# EAGLE library part TFF (library ngspice)
The digital toggle-type flip flop is a one-bit, edge-triggered storage element which will toggle its current state whenever the clk input line transitions from low to high (ZERO to ONE). In addition, asynchronous set and reset signals exist, and each of the three meth- ods of changing the stored output of the d_tff have separate load values and delays associated with them. Additionally, you may specify separate rise and fall delay values that are added to those specified for the input lines; these allow for more faithful reproduction of the output characteristics of different IC fabrication technologies. Note that any UNKNOWN inputs other than t immediately cause the output to go UNKNOWN.
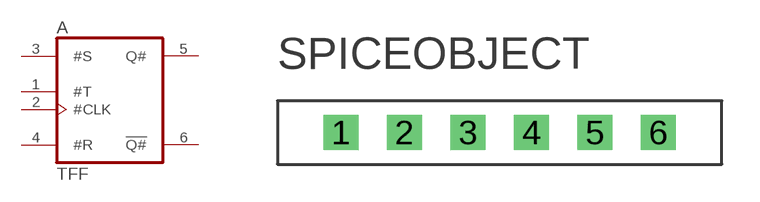
[diagram p2: symbol with the pads of SPICE6; footprint SPICE6]

Designator prefix A

## TFF (SPICE_MODEL: .model >VALUE d_tff (clk_delay set_delay reset_delay ic t_load clk_load set_load reset_load rise_delay fall_delay); SP_CLK_DELAY: 1ns; SP_CLK_LOAD: 1pF; SP_FALL_DELAY: 1ns; SP_IC: 0; SP_RESET_DELAY: 1ns; SP_RESET_LOAD: 1pF; SP_RISE_DELAY: 1ns; SP_SET_DELAY: 1ns; SP_SET_LOAD: 1pF; SP_T_LOAD: 1pF)  [SPICE6]
1  #T  in
2  #CLK  in
3  #S  in
4  #R  in
5  Q#  out
6  !Q#  out

## Footprint SPICE6 (pad centres in mm)
drill 0.813 pad 1.397 square: 1 -6.35,0; 2 -3.81,0; 3 -1.27,0; 4 1.27,0; 5 3.81,0; 6 6.35,0